# Altium footprint library 电阻.PcbLib: 63 footprints (part 2 of 4)
Each footprint in its own frame and in the unit in brackets; x right, y up, seen from the top. Pads: shape width x height; smd on the part's side, far side on the other; paste and mask are expansions set on the pad; w line width, h text height; cw(c..) or ccw(c..) is an arc to the next point about the centre after c.
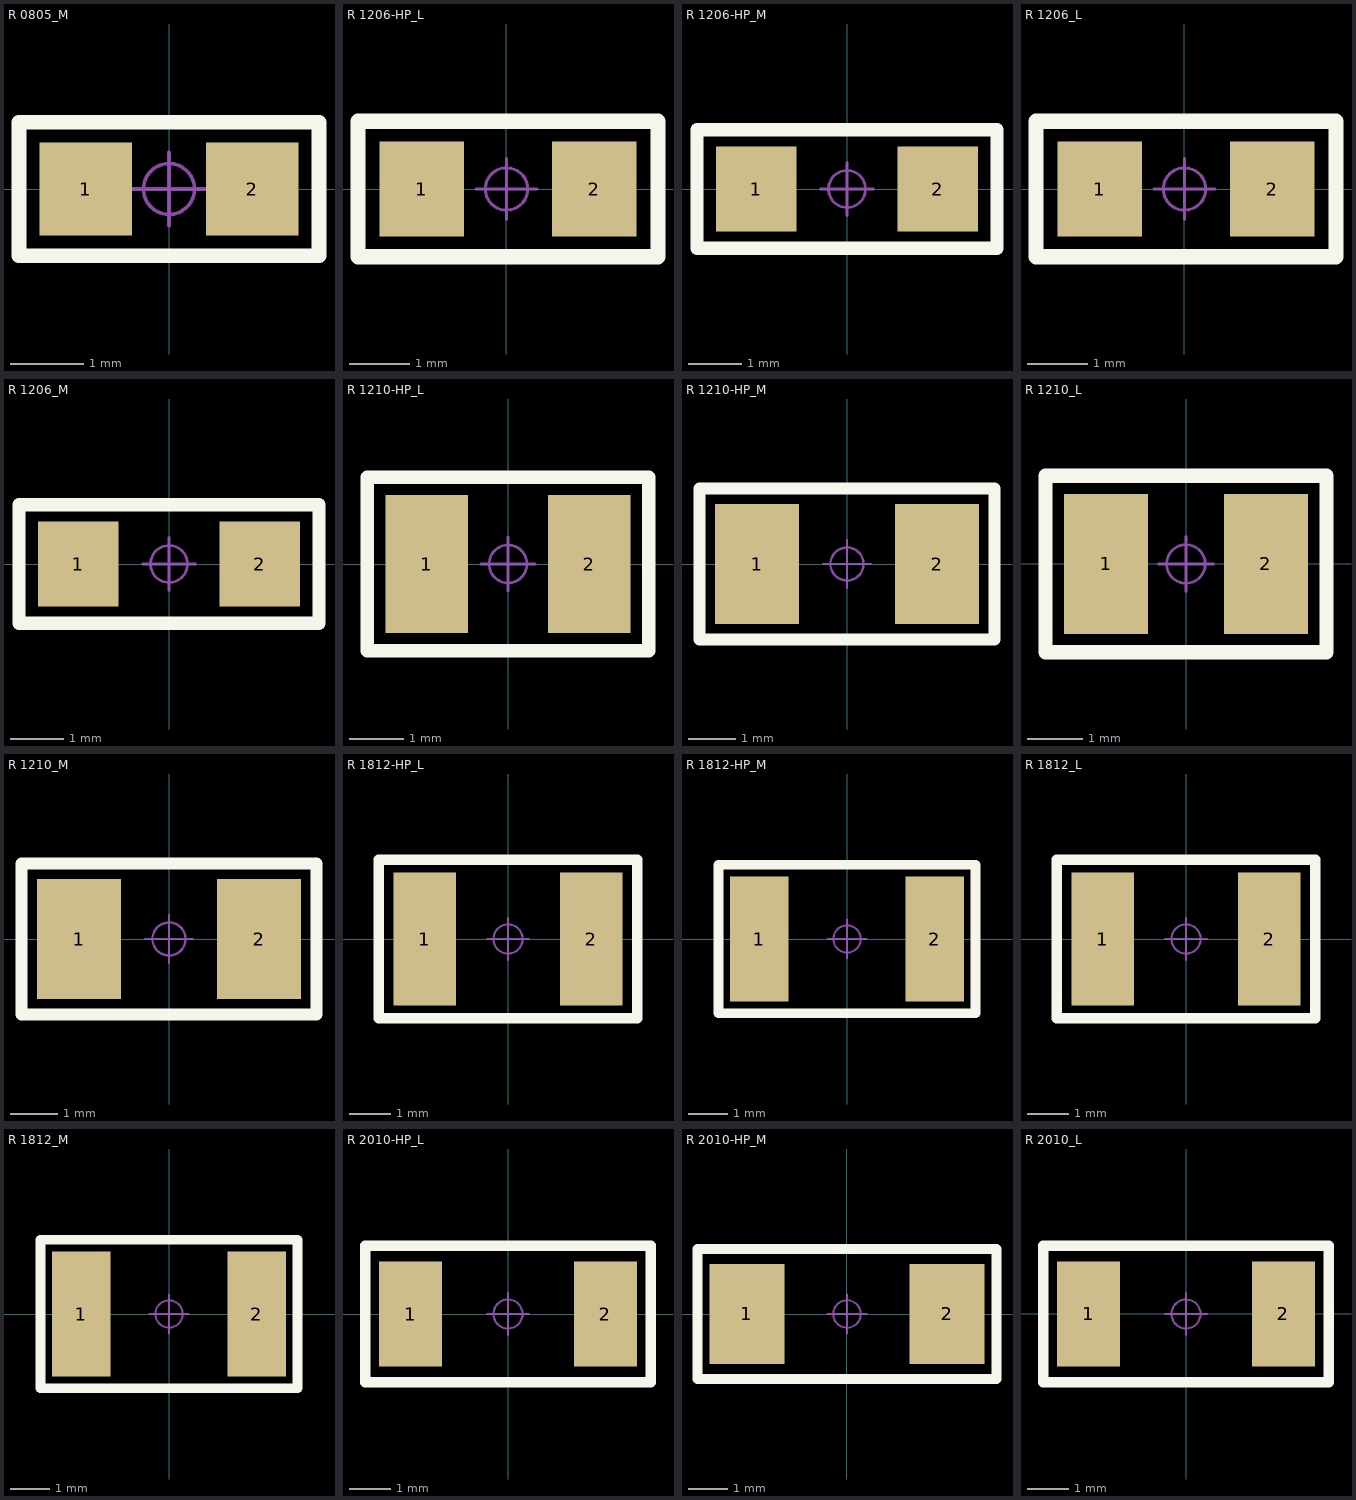
[diagram p1: the footprints below, top view; thin cyan lines are the x and y axes]

## R 0805_M [mil] "1/8W贴片电阻"
pads (2):
  rect 50x50 smd: 1(-45,0) 2(45,0)
Top Overlay:
  lines w8: -81,-36 81,-36 81,36 -81,36 -81,-36
Mechanical 15:
  circle w1.97: c0,0 r13.78
  lines w1.97: -19.68,0 19.68,0 ; 0,-19.68 0,19.68
3D body "R 0805.STEP": height 19.72, standoff -0.24, extent -39.37,-24.6 39.37,24.61

## R 1206-HP_L [mil] "1/4W高精度贴片电阻"
pads (2):
  rect 55x62 smd: 1(-55.12,0) 2(57.09,0)
Top Overlay:
  lines w10: -96.46,-44 98.43,-44 98.43,44 -96.46,44 -96.46,-44
Mechanical 15:
  circle w1.97: c0,0 r13.78
  lines w1.97: -19.68,0 19.68,0 ; 0,-19.68 0,19.68
3D body "R 1206-HP.STEP": height 21.69, standoff -0.32, extent -62.98,-31.49 63,31.5

## R 1206-HP_M [mil] "1/4W高精度贴片电阻"
pads (2):
  rect 60x62.99 smd: 1(-67.5,0) 2(67.5,0)
Top Overlay:
  lines w10: -111.5,-44 -111.5,44 111.5,44 111.5,-44 -111.5,-44
Mechanical 15:
  circle w1.97: c0,0 r13.78
  lines w1.97: -19.68,0 19.68,0 ; 0,-19.68 0,19.68
3D body "R 1206-HP.STEP": height 21.69, standoff -0.32, extent -62.98,-31.49 63,31.5

## R 1206_L [mil] "1/4W贴片电阻"
pads (2):
  rect 55x62 smd: 1(-55.12,0) 2(57.09,0)
Top Overlay:
  lines w10: -96.46,-44 -96.46,44 98.43,44 98.43,-44 -96.46,-44
Mechanical 15:
  circle w1.97: c0,0 r13.78
  lines w1.97: -19.68,0 19.68,0 ; 0,-19.68 0,19.68
3D body "R 1206.STEP": height 21.69, standoff -0.24, extent -62.99,-31.49 63,31.5

## R 1206_M [mil] "1/4W贴片电阻"
pads (2):
  rect 60x62.99 smd: 1(-67.5,0) 2(67.5,0)
Top Overlay:
  lines w10: -111.5,-44 -111.5,44 111.5,44 111.5,-44 -111.5,-44
Mechanical 15:
  circle w1.97: c0,0 r13.78
  lines w1.97: -19.68,0 19.68,0 ; 0,-19.68 0,19.68
3D body "R 1206.STEP": height 21.69, standoff -0.24, extent -62.99,-31.49 63,31.5

## R 1210-HP_L [mm] "1/3W高精度贴片电阻"
pads (2):
  rect 1.524x2.54 smd: 1(-1.5,0) 2(1.5,0)
Top Overlay:
  lines w0.254: -2.6,-1.6 -2.6,1.6 2.6,1.6 2.6,-1.6 -2.6,-1.6
Mechanical 15:
  circle w0.05: c0,0 r0.35
  lines w0.05: -0.5,0 0.5,0 ; 0,-0.5 0,0.5
3D body "R 1210-HP.STEP": height 0.55, standoff -0.01, extent -1.6,-1.25 1.6,1.25

## R 1210-HP_M [mil] "1/3W高精度贴片电阻"
pads (2):
  rect 70x100 smd: 1(-75,0) 2(75,0)
Top Overlay:
  lines w10: -123,-63 123,-63 123,63 -123,63 -123,-63
Mechanical 15:
  circle w1.97: c0,0 r13.78
  lines w1.97: -19.68,0 19.68,0 ; 0,-19.68 0,19.68
3D body "R 1210-HP.STEP": height 21.69, standoff -0.47, extent -62.99,-49.21 63,49.22

## R 1210_L [mm] "1/3W贴片电阻"
pads (2):
  rect 1.524x2.54 smd: 1(-1.45,0) 2(1.45,0)
Top Overlay:
  lines w0.254: -2.55,-1.6 2.55,-1.6 2.55,1.6 -2.55,1.6 -2.55,-1.6
Mechanical 15:
  circle w0.05: c0,0 r0.35
  lines w0.05: -0.5,0 0.5,0 ; 0,-0.5 0,0.5
3D body "R 1210.STEP": height 0.55, standoff -0.01, extent -1.6,-1.25 1.6,1.25

## R 1210_M [mil] "1/3W贴片电阻"
pads (2):
  rect 70x100 smd: 1(-75,0) 2(75,0)
Top Overlay:
  lines w10: -123,-63 -123,63 123,63 123,-63 -123,-63
Mechanical 15:
  circle w1.97: c0,0 r13.78
  lines w1.97: -19.68,0 19.68,0 ; 0,-19.68 0,19.68
3D body "R 1210.STEP": height 21.69, standoff -0.32, extent -62.99,-49.2 63,49.22

## R 1812-HP_L [mm] "1/2W高精度贴片电阻"
pads (2):
  rect 1.5x3.2 smd: 1(-2,0) 2(2,0)
Top Overlay:
  lines w0.254: -1.27,1.905 1.016,1.905 3.1,1.905 3.1,-1.905 1.016,-1.905 -1.016,-1.905 -3.1,-1.905 -3.1,1.905 -1.016,1.905
Mechanical 15:
  circle w0.05: c0,0 r0.35
  lines w0.05: -0.5,0 0.5,0 ; 0,-0.5 0,0.5
3D body "R 1812-HP.STEP": height 0.55, standoff -0.01, extent -2.25,-1.6 2.25,1.6

## R 1812-HP_M [mm] "1/2W高精度贴片电阻"
pads (2):
  rect 1.5x3.2 smd: 1(-2.25,0) 2(2.25,0)
Top Overlay:
  lines w0.254: -1.27,1.905 1.016,1.905 3.302,1.905 3.302,-0.508 3.302,-1.905 1.016,-1.905 -1.016,-1.905 -3.302,-1.905 -3.302,1.905 -1.016,1.905
Mechanical 15:
  circle w0.05: c0,0 r0.35
  lines w0.05: -0.5,0 0.5,0 ; 0,-0.5 0,0.5
3D body "R 1812-HP.STEP": height 0.55, standoff -0.01, extent -2.25,-1.6 2.25,1.6

## R 1812_L [mm] "1/2W贴片电阻"
pads (2):
  rect 1.5x3.2 smd: 1(-2,0) 2(2,0)
Top Overlay:
  lines w0.254: -1.27,1.905 1.016,1.905 3.1,1.905 3.1,-1.905 1.016,-1.905 -1.016,-1.905 -3.1,-1.905 -3.1,1.905 -1.016,1.905
Mechanical 15:
  circle w0.05: c0,0 r0.35
  lines w0.05: -0.5,0 0.5,0 ; 0,-0.5 0,0.5
3D body "R 1812.STEP": height 0.55, standoff -0.01, extent -2.25,-1.6 2.25,1.6

## R 1812_M [mm] "1/2W贴片电阻"
pads (2):
  rect 1.5x3.2 smd: 1(-2.25,0) 2(2.25,0)
Top Overlay:
  lines w0.254: -1.27,1.905 1.016,1.905 3.302,1.905 3.302,-0.508 3.302,-1.905 1.016,-1.905 -1.016,-1.905 -3.302,-1.905 -3.302,1.905 -1.016,1.905
Mechanical 15:
  circle w0.05: c0,0 r0.35
  lines w0.05: -0.5,0 0.5,0 ; 0,-0.5 0,0.5
3D body "R 1812.STEP": height 0.55, standoff -0.01, extent -2.25,-1.6 2.25,1.6

## R 2010-HP_L [mm] "3/4W高精度贴片电阻"
pads (2):
  rect 1.52x2.54 smd: 1(-2.35,0) 2(2.35,0)
Top Overlay:
  lines w0.254: -3.45,-1.651 -3.45,1.651 1.27,1.651 3.45,1.651 3.45,-1.651 1.27,-1.651 -3.45,-1.651
Mechanical 15:
  circle w0.05: c0,0 r0.35
  lines w0.05: -0.5,0 0.5,0 ; 0,-0.5 0,0.5
3D body "R 2010-HP.STEP": height 0.55, standoff -0.01, extent -2.5,-1.25 2.5,1.25

## R 2010-HP_M [mm] "3/4W高精度贴片电阻"
pads (2):
  rect 1.905x2.54 smd: 1(-2.55,0) 2(2.55,0)
Top Overlay:
  lines w0.254: -3.81,-1.651 -3.81,0.635 -3.81,1.651 1.27,1.651 3.81,1.651 3.81,-0.635 3.81,-1.651 1.27,-1.651 -3.81,-1.651
Mechanical 15:
  circle w0.05: c0,0 r0.35
  lines w0.05: -0.5,0 0.5,0 ; 0,-0.5 0,0.5
3D body "R 2010-HP.STEP": height 0.55, standoff -0.01, extent -2.5,-1.25 2.5,1.25

## R 2010_L [mm] "3/4W贴片电阻"
pads (2):
  rect 1.52x2.54 smd: 1(-2.35,0) 2(2.35,0)
Top Overlay:
  lines w0.254: -3.45,-1.651 -3.45,1.651 1.27,1.651 3.45,1.651 3.45,-1.651 1.27,-1.651 -3.45,-1.651
Mechanical 15:
  circle w0.05: c0,0 r0.35
  lines w0.05: -0.5,0 0.5,0 ; 0,-0.5 0,0.5
3D body "R 2010.STEP": height 0.55, standoff -0.01, extent -2.5,-1.25 2.5,1.25